# Altium footprint library 53398-0471.PcbLib: 1 footprints
Each footprint in its own frame and in the unit in brackets; x right, y up, seen from the top. Pads: shape width x height; smd on the part's side, far side on the other; paste and mask are expansions set on the pad; w line width, h text height; cw(c..) or ccw(c..) is an arc to the next point about the centre after c.
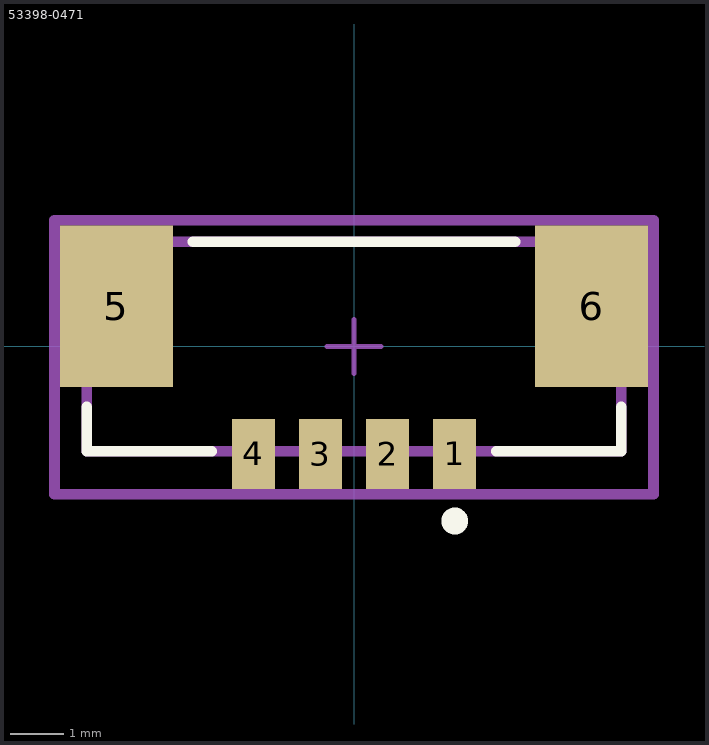
[diagram p0: the footprint, top view; thin cyan lines are the x and y axes]

## 53398-0471 [mm]
pads (6):
  rect 0.8x1.3 smd paste+0 mask+0: 1(1.875,-2) 2(0.625,-2) 3(-0.625,-2) 4(-1.875,-2)
  rect 2.1x3 smd paste+0 mask+0: 5(-4.425,0.75) 6(4.425,0.75)
Top Overlay:
  circle w0.25: c1.875,-3.25 r0.125
  lines w0.2: -4.975,-1.125 -4.975,-1.95 -2.65,-1.95 ; -3,1.95 3,1.95 ; 2.65,-1.95 4.975,-1.95 4.975,-1.125
Top 3D Body:
  lines w0.2: -4.975,-1.95 4.975,-1.95 4.975,1.95 -4.975,1.95 -4.975,-1.95
Top Assembly:
  lines w0.2: -5.575,-2.75 5.575,-2.75 5.575,2.35 -5.575,2.35 -5.575,-2.75
  text ".Designator" at 0,-0.012 h1
Top Courtyard:
  lines w0.2: -5.575,-2.75 5.575,-2.75 5.575,2.35 -5.575,2.35 -5.575,-2.75
Top Component Center:
  lines w0.1: -0.5,0 0.5,0 ; 0,-0.5 0,0.5
3D body "Conn_Molex_533980471_eec.STEP": height 0.25, standoff 0, extent -5.575,-2.75 5.575,2.35